# EAGLE library part TSM-108-SV (library con-samtec02)
SMD PIN HEADER
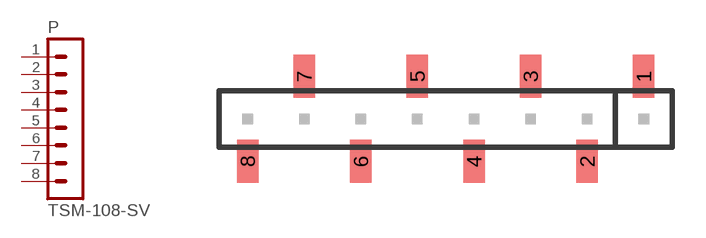
[diagram p2: symbol with the pads of TSM-108-SV; footprint TSM-108-SV]

Designator prefix P

## TSM-108-SV  [TSM-108-SV]
1  1  pas
2  2  pas
3  3  pas
4  4  pas
5  5  pas
6  6  pas
7  7  pas
8  8  pas

## Footprint TSM-108-SV (pad centres in mm)
SMD PIN HEADER - 0.1"
smd 0.965 x 1.93: 1 8.89,1.905; 2 6.35,-1.905; 3 3.81,1.905; 4 1.27,-1.905; 5 -1.27,1.905; 6 -3.81,-1.905; 7 -6.35,1.905; 8 -8.89,-1.905